# EAGLE library part LTC3200-5 (library HyTechDevices)
LTC3200-5 Low Noise, Charge Pump DC-DC Regulator Datasheet <https://www.analog.com/media/en/technical-documentation/data-sheets/32005f.pdf> Produces a regulated output voltage from a 2.7V to 4.5V input with up to 100mA of output current *Notes: - Flying capacitors connected to pins 4 (C-) and 6 (C+) must have at least 0.68 uF of capacitance in order to achieve the rated output current - Pins 1 (Vin) and 5 (Vout) both need to be bypassed with capacitors with capacitance >=0.47 uF - Pins 5 (Vout) and 3 (!SHDN) should have connected inputs
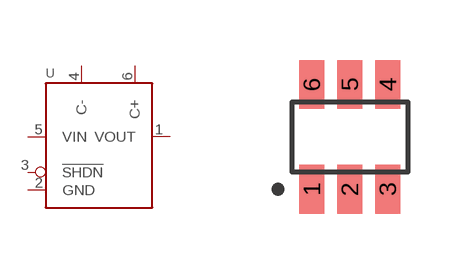
[diagram p19: symbol with the pads of SOT-23-6; footprint SOT-23-6]

Designator prefix U

## LTC3200-5 (DKPN: LTC3200ES6-5#TRPBFTR-ND; MANUFACTURER: Analog Devices Inc.; MOPN: 584-C3200ES6-5TRPBF; MPN: LTC3200ES6-5#TRPBF)  [SOT-23-6]
1  VOUT  pwr
2  GND  pwr
3  !SHDN  in
4  C-
5  VIN  pwr
6  C+

## Footprint SOT-23-6 (pad centres in mm)
6-Lead Plastic ThinSOT-23 Footprint Detailing <https://www.analog.com/media/en/package-pcb-resources/package/pkg_pdf/ltc-legacy-sot-23/SOT_6_05-08-1636.pdf>
smd 0.62 x 1.22: 1 -0.95,-1.31; 2 0,-1.31; 3 0.95,-1.31; 4 0.95,1.31; 5 0,1.31; 6 -0.95,1.31